# Altium schematic symbol library EA2025MA10-16.000M_TR.SchLib: 1 symbol
Pins are listed as number, name and electrical type; pins without a type are passive.

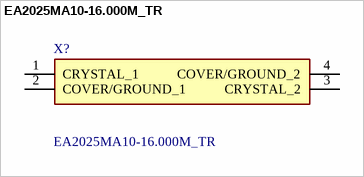
[diagram p0: symbol EA2025MA10-16.000M_TR]

## EA2025MA10-16.000M_TR
designator X?
16 MHz +/-15ppm Crystal 8pF 80 Ohms 4-SMD, No Lead -40C +85C; Manufacturer_Name: ABRACON; Manufacturer_Part_Number: EA2025MA10-16.000M TR; Geometry.Height: 0.65mm; Mouser Part Number: *; Mouser Price/Stock: *; Arrow Part Number: *; Arrow Price/Stock: *; Datasheet Link: https://abracon.com/datasheets/Ecliptek/EA2025.pdf
footprint EA2025MA1016000MTR
pins: 1 CRYSTAL_1, 2 COVER/GROUND_1, 3 CRYSTAL_2, 4 COVER/GROUND_2